# Altium integrated library con-shiua-chyuan.IntLib: 1 symbol
Pins are listed as number, name and electrical type; pins without a type are passive.

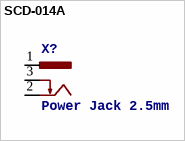
[diagram p0: symbol SCD-014A]

## SCD-014A
designator X?, comment Power Jack 2.5mm
OC_FARNELL: unknown; OC_NEWARK: unknown
footprint SCD-014-A
pins: 1, 2, 3